# Altium footprint library CONN_HDR_2.54MM_ST.PcbLib: 159 footprints (part 5 of 13)
Each footprint in its own frame and in the unit in brackets; x right, y up, seen from the top. Pads: shape width x height; smd on the part's side, far side on the other; paste and mask are expansions set on the pad; w line width, h text height; cw(c..) or ccw(c..) is an arc to the next point about the centre after c.
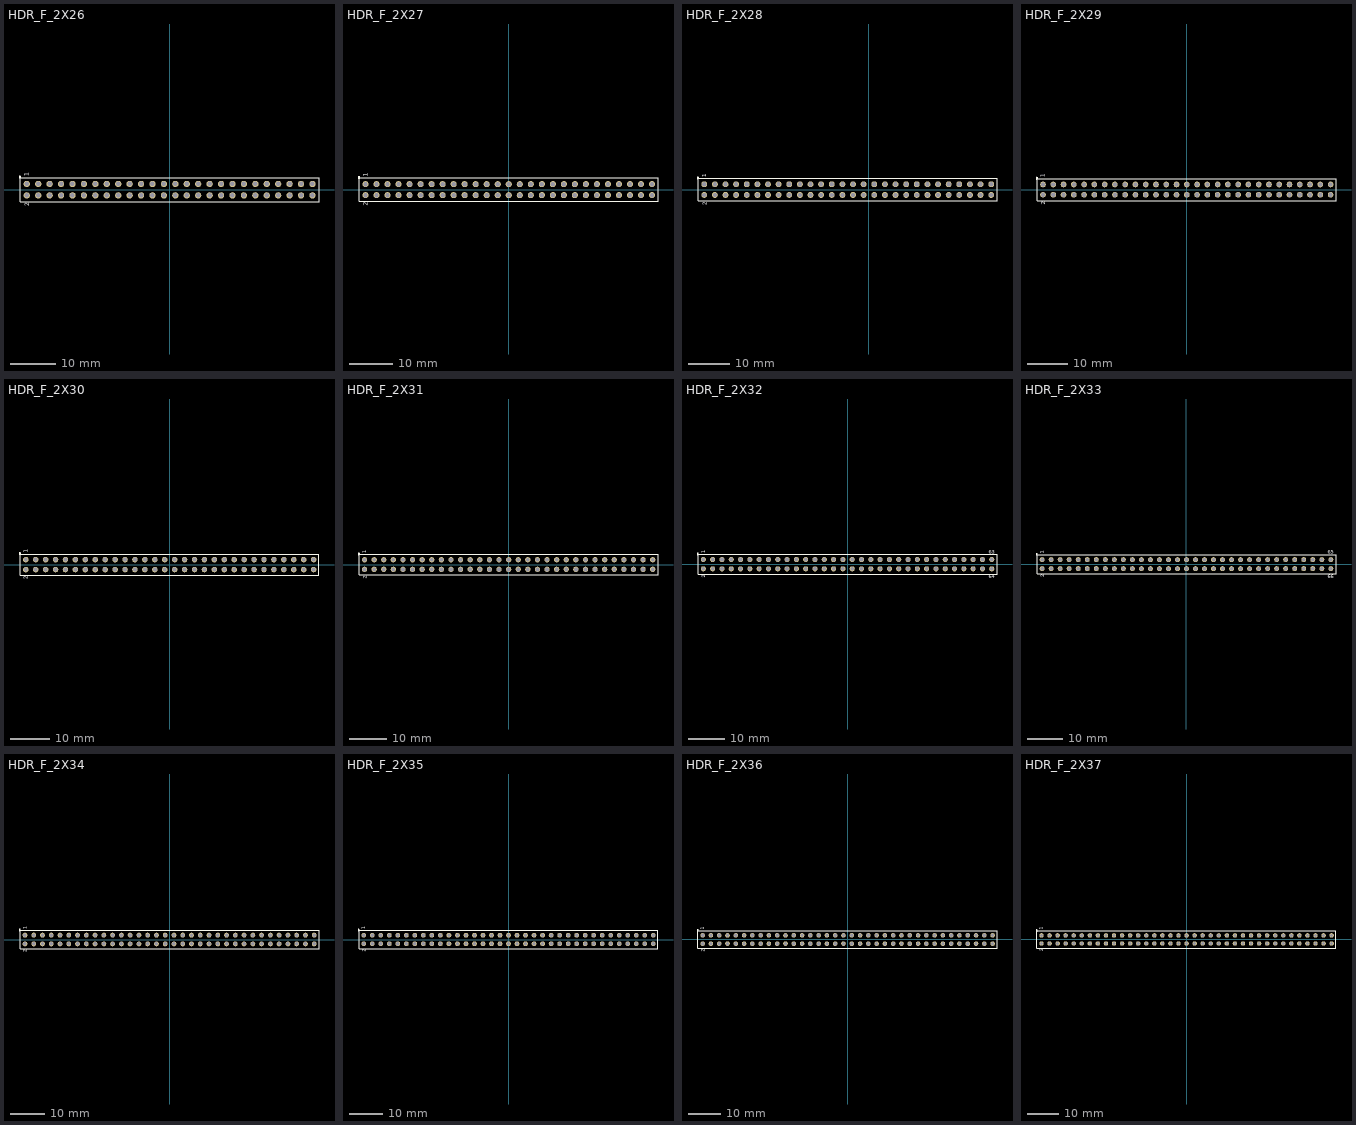
[diagram p4: the footprints below, top view; thin cyan lines are the x and y axes]

## HDR_F_2X26 [mm] "female Header with 2.54 mm Pitch"
pads (52):
  round 1.4 / inner round 1.4 / far side oval 1.4x2.2 hole 1: 1(-31.75,1.27) 2(-31.75,-1.27) 3(-29.21,1.27) 4(-29.21,-1.27) 5(-26.67,1.27) 6(-26.67,-1.27) 7(-24.13,1.27) 8(-24.13,-1.27) 9(-21.59,1.27) 10(-21.59,-1.27) 11(-19.05,1.27) 12(-19.05,-1.27) 13(-16.51,1.27) 14(-16.51,-1.27) 15(-13.97,1.27) 16(-13.97,-1.27) 17(-11.43,1.27) 18(-11.43,-1.27) 19(-8.89,1.27) 20(-8.89,-1.27) 21(-6.35,1.27) 22(-6.35,-1.27) 23(-3.81,1.27) 24(-3.81,-1.27) 25(-1.27,1.27) 26(-1.27,-1.27) 27(1.27,1.27) 28(1.27,-1.27) 29(3.81,1.27) 30(3.81,-1.27) 31(6.35,1.27) 32(6.35,-1.27) 33(8.89,1.27) 34(8.89,-1.27) 35(11.43,1.27) 36(11.43,-1.27) 37(13.97,1.27) 38(13.97,-1.27) 39(16.51,1.27) 40(16.51,-1.27) 41(19.05,1.27) 42(19.05,-1.27) 43(21.59,1.27) 44(21.59,-1.27) 45(24.13,1.27) 46(24.13,-1.27) 47(26.67,1.27) 48(26.67,-1.27) 49(29.21,1.27) 50(29.21,-1.27) 51(31.75,1.27) 52(31.75,-1.27)
TopOverlay:
  circle w0.2: c-33.28,2.8 r0.2
  lines w0.2: -33.18,-2.7 -33.18,2.7 33.2,2.7 33.2,-2.7 -33.18,-2.7
  text "1" at -31.28,3 h1
  text "2" at -31.18,-3.7 h1
3D body "PBD-2.stp": height 8.5, standoff -3.15, extent -27.94,-2.54 -25.4,2.54
3D body "PBD-2.stp": height 8.5, standoff -3.15, extent -33.02,-2.54 -30.48,2.54
3D body "PBD-2.stp": height 8.5, standoff -3.15, extent -30.48,-2.54 -27.94,2.54
3D body "PBD-2.stp": height 8.5, standoff -3.15, extent -20.32,-2.54 -17.78,2.54
3D body "PBD-2.stp": height 8.5, standoff -3.15, extent -25.4,-2.54 -22.86,2.54
3D body "PBD-2.stp": height 8.5, standoff -3.15, extent -22.86,-2.54 -20.32,2.54
3D body "PBD-2.stp": height 8.5, standoff -3.15, extent -12.7,-2.54 -10.16,2.54
3D body "PBD-2.stp": height 8.5, standoff -3.15, extent -17.78,-2.54 -15.24,2.54
3D body "PBD-2.stp": height 8.5, standoff -3.15, extent -15.24,-2.54 -12.7,2.54
3D body "PBD-2.stp": height 8.5, standoff -3.15, extent -5.08,-2.54 -2.54,2.54
3D body "PBD-2.stp": height 8.5, standoff -3.15, extent -10.16,-2.54 -7.62,2.54
3D body "PBD-2.stp": height 8.5, standoff -3.15, extent -7.62,-2.54 -5.08,2.54
3D body "PBD-2.stp": height 8.5, standoff -3.15, extent 2.54,-2.54 5.08,2.54
3D body "PBD-2.stp": height 8.5, standoff -3.15, extent -2.54,-2.54 0,2.54
3D body "PBD-2.stp": height 8.5, standoff -3.15, extent 0,-2.54 2.54,2.54
3D body "PBD-2.stp": height 8.5, standoff -3.15, extent 10.16,-2.54 12.7,2.54
3D body "PBD-2.stp": height 8.5, standoff -3.15, extent 5.08,-2.54 7.62,2.54
3D body "PBD-2.stp": height 8.5, standoff -3.15, extent 7.62,-2.54 10.16,2.54
3D body "PBD-2.stp": height 8.5, standoff -3.15, extent 12.7,-2.54 15.24,2.54
3D body "PBD-2.stp": height 8.5, standoff -3.15, extent 15.24,-2.54 17.78,2.54
3D body "PBD-2.stp": height 8.5, standoff -3.15, extent 17.78,-2.54 20.32,2.54
3D body "PBD-2.stp": height 8.5, standoff -3.15, extent 20.32,-2.54 22.86,2.54
3D body "PBD-2.stp": height 8.5, standoff -3.15, extent 22.86,-2.54 25.4,2.54
3D body "PBD-2.stp": height 8.5, standoff -3.15, extent 25.4,-2.54 27.94,2.54
3D body "PBD-2.stp": height 8.5, standoff -3.15, extent 27.94,-2.54 30.48,2.54
3D body "PBD-2.stp": height 8.5, standoff -3.15, extent 30.48,-2.54 33.02,2.54

## HDR_F_2X27 [mm] "female Header with 2.54 mm Pitch"
pads (54):
  round 1.4 / inner round 1.4 / far side oval 1.4x2.2 hole 1: 1(-33.02,1.27) 2(-33.02,-1.27) 3(-30.48,1.27) 4(-30.48,-1.27) 5(-27.94,1.27) 6(-27.94,-1.27) 7(-25.4,1.27) 8(-25.4,-1.27) 9(-22.86,1.27) 10(-22.86,-1.27) 11(-20.32,1.27) 12(-20.32,-1.27) 13(-17.78,1.27) 14(-17.78,-1.27) 15(-15.24,1.27) 16(-15.24,-1.27) 17(-12.7,1.27) 18(-12.7,-1.27) 19(-10.16,1.27) 20(-10.16,-1.27) 21(-7.62,1.27) 22(-7.62,-1.27) 23(-5.08,1.27) 24(-5.08,-1.27) 25(-2.54,1.27) 26(-2.54,-1.27) 27(0,1.27) 28(0,-1.27) 29(2.54,1.27) 30(2.54,-1.27) 31(5.08,1.27) 32(5.08,-1.27) 33(7.62,1.27) 34(7.62,-1.27) 35(10.16,1.27) 36(10.16,-1.27) 37(12.7,1.27) 38(12.7,-1.27) 39(15.24,1.27) 40(15.24,-1.27) 41(17.78,1.27) 42(17.78,-1.27) 43(20.32,1.27) 44(20.32,-1.27) 45(22.86,1.27) 46(22.86,-1.27) 47(25.4,1.27) 48(25.4,-1.27) 49(27.94,1.27) 50(27.94,-1.27) 51(30.48,1.27) 52(30.48,-1.27) 53(33.02,1.27) 54(33.02,-1.27)
TopOverlay:
  circle w0.2: c-34.55,2.8 r0.2
  lines w0.2: -34.45,-2.7 34.4,-2.7 34.4,2.7 -34.45,2.7 -34.45,-2.7
  text "2" at -32.45,-3.7 h1
  text "1" at -32.55,3 h1
3D body "PBD-2.stp": height 8.5, standoff -3.15, extent 31.75,-2.54 34.29,2.54
3D body "PBD-2.stp": height 8.5, standoff -3.15, extent 29.21,-2.54 31.75,2.54
3D body "PBD-2.stp": height 8.5, standoff -3.15, extent 26.67,-2.54 29.21,2.54
3D body "PBD-2.stp": height 8.5, standoff -3.15, extent 24.13,-2.54 26.67,2.54
3D body "PBD-2.stp": height 8.5, standoff -3.15, extent 21.59,-2.54 24.13,2.54
3D body "PBD-2.stp": height 8.5, standoff -3.15, extent 19.05,-2.54 21.59,2.54
3D body "PBD-2.stp": height 8.5, standoff -3.15, extent 16.51,-2.54 19.05,2.54
3D body "PBD-2.stp": height 8.5, standoff -3.15, extent 13.97,-2.54 16.51,2.54
3D body "PBD-2.stp": height 8.5, standoff -3.15, extent 11.43,-2.54 13.97,2.54
3D body "PBD-2.stp": height 8.5, standoff -3.15, extent 6.35,-2.54 8.89,2.54
3D body "PBD-2.stp": height 8.5, standoff -3.15, extent 3.81,-2.54 6.35,2.54
3D body "PBD-2.stp": height 8.5, standoff -3.15, extent 8.89,-2.54 11.43,2.54
3D body "PBD-2.stp": height 8.5, standoff -3.15, extent -1.27,-2.54 1.27,2.54
3D body "PBD-2.stp": height 8.5, standoff -3.15, extent -3.81,-2.54 -1.27,2.54
3D body "PBD-2.stp": height 8.5, standoff -3.15, extent 1.27,-2.54 3.81,2.54
3D body "PBD-2.stp": height 8.5, standoff -3.15, extent -8.89,-2.54 -6.35,2.54
3D body "PBD-2.stp": height 8.5, standoff -3.15, extent -11.43,-2.54 -8.89,2.54
3D body "PBD-2.stp": height 8.5, standoff -3.15, extent -6.35,-2.54 -3.81,2.54
3D body "PBD-2.stp": height 8.5, standoff -3.15, extent -16.51,-2.54 -13.97,2.54
3D body "PBD-2.stp": height 8.5, standoff -3.15, extent -19.05,-2.54 -16.51,2.54
3D body "PBD-2.stp": height 8.5, standoff -3.15, extent -13.97,-2.54 -11.43,2.54
3D body "PBD-2.stp": height 8.5, standoff -3.15, extent -24.13,-2.54 -21.59,2.54
3D body "PBD-2.stp": height 8.5, standoff -3.15, extent -26.67,-2.54 -24.13,2.54
3D body "PBD-2.stp": height 8.5, standoff -3.15, extent -21.59,-2.54 -19.05,2.54
3D body "PBD-2.stp": height 8.5, standoff -3.15, extent -31.75,-2.54 -29.21,2.54
3D body "PBD-2.stp": height 8.5, standoff -3.15, extent -34.29,-2.54 -31.75,2.54
3D body "PBD-2.stp": height 8.5, standoff -3.15, extent -29.21,-2.54 -26.67,2.54

## HDR_F_2X28 [mm] "female Header with 2.54 mm Pitch"
pads (56):
  round 1.4 / inner round 1.4 / far side oval 1.4x2.2 hole 1: 1(-39.37,1.27) 2(-39.37,-1.27) 3(-36.83,1.27) 4(-36.83,-1.27) 5(-34.29,1.27) 6(-34.29,-1.27) 7(-31.75,1.27) 8(-31.75,-1.27) 9(-29.21,1.27) 10(-29.21,-1.27) 11(-26.67,1.27) 12(-26.67,-1.27) 13(-24.13,1.27) 14(-24.13,-1.27) 15(-21.59,1.27) 16(-21.59,-1.27) 17(-19.05,1.27) 18(-19.05,-1.27) 19(-16.51,1.27) 20(-16.51,-1.27) 21(-13.97,1.27) 22(-13.97,-1.27) 23(-11.43,1.27) 24(-11.43,-1.27) 25(-8.89,1.27) 26(-8.89,-1.27) 27(-6.35,1.27) 28(-6.35,-1.27) 29(-3.81,1.27) 30(-3.81,-1.27) 31(-1.27,1.27) 32(-1.27,-1.27) 33(1.27,1.27) 34(1.27,-1.27) 35(3.81,1.27) 36(3.81,-1.27) 37(6.35,1.27) 38(6.35,-1.27) 39(8.89,1.27) 40(8.89,-1.27) 41(11.43,1.27) 42(11.43,-1.27) 43(13.97,1.27) 44(13.97,-1.27) 45(16.51,1.27) 46(16.51,-1.27) 47(19.05,1.27) 48(19.05,-1.27) 49(21.59,1.27) 50(21.59,-1.27) 51(24.13,1.27) 52(24.13,-1.27) 53(26.67,1.27) 54(26.67,-1.27) 55(29.21,1.27) 56(29.21,-1.27)
TopOverlay:
  circle w0.2: c-40.9,2.8 r0.2
  lines w0.2: -40.8,-2.7 -40.8,2.7 30.6,2.7 30.6,-2.7 -40.8,-2.7
  text "1" at -38.9,3 h1
  text "2" at -38.8,-3.7 h1
3D body "PBD-2.stp": height 8.5, standoff -3.15, extent -35.56,-2.54 -33.02,2.54
3D body "PBD-2.stp": height 8.5, standoff -3.15, extent -40.64,-2.54 -38.1,2.54
3D body "PBD-2.stp": height 8.5, standoff -3.15, extent -38.1,-2.54 -35.56,2.54
3D body "PBD-2.stp": height 8.5, standoff -3.15, extent -27.94,-2.54 -25.4,2.54
3D body "PBD-2.stp": height 8.5, standoff -3.15, extent -33.02,-2.54 -30.48,2.54
3D body "PBD-2.stp": height 8.5, standoff -3.15, extent -30.48,-2.54 -27.94,2.54
3D body "PBD-2.stp": height 8.5, standoff -3.15, extent -20.32,-2.54 -17.78,2.54
3D body "PBD-2.stp": height 8.5, standoff -3.15, extent -25.4,-2.54 -22.86,2.54
3D body "PBD-2.stp": height 8.5, standoff -3.15, extent -22.86,-2.54 -20.32,2.54
3D body "PBD-2.stp": height 8.5, standoff -3.15, extent -12.7,-2.54 -10.16,2.54
3D body "PBD-2.stp": height 8.5, standoff -3.15, extent -17.78,-2.54 -15.24,2.54
3D body "PBD-2.stp": height 8.5, standoff -3.15, extent -15.24,-2.54 -12.7,2.54
3D body "PBD-2.stp": height 8.5, standoff -3.15, extent -5.08,-2.54 -2.54,2.54
3D body "PBD-2.stp": height 8.5, standoff -3.15, extent -10.16,-2.54 -7.62,2.54
3D body "PBD-2.stp": height 8.5, standoff -3.15, extent -7.62,-2.54 -5.08,2.54
3D body "PBD-2.stp": height 8.5, standoff -3.15, extent 2.54,-2.54 5.08,2.54
3D body "PBD-2.stp": height 8.5, standoff -3.15, extent -2.54,-2.54 0,2.54
3D body "PBD-2.stp": height 8.5, standoff -3.15, extent 0,-2.54 2.54,2.54
3D body "PBD-2.stp": height 8.5, standoff -3.15, extent 5.08,-2.54 7.62,2.54
3D body "PBD-2.stp": height 8.5, standoff -3.15, extent 7.62,-2.54 10.16,2.54
3D body "PBD-2.stp": height 8.5, standoff -3.15, extent 10.16,-2.54 12.7,2.54
3D body "PBD-2.stp": height 8.5, standoff -3.15, extent 12.7,-2.54 15.24,2.54
3D body "PBD-2.stp": height 8.5, standoff -3.15, extent 15.24,-2.54 17.78,2.54
3D body "PBD-2.stp": height 8.5, standoff -3.15, extent 17.78,-2.54 20.32,2.54
3D body "PBD-2.stp": height 8.5, standoff -3.15, extent 20.32,-2.54 22.86,2.54
3D body "PBD-2.stp": height 8.5, standoff -3.15, extent 27.94,-2.54 30.48,2.54
3D body "PBD-2.stp": height 8.5, standoff -3.15, extent 22.86,-2.54 25.4,2.54
3D body "PBD-2.stp": height 8.5, standoff -3.15, extent 25.4,-2.54 27.94,2.54

## HDR_F_2X29 [mm] "female Header with 2.54 mm Pitch"
pads (58):
  round 1.4 / inner round 1.4 / far side oval 1.4x2.2 hole 1: 1(-35.56,1.27) 2(-35.56,-1.27) 3(-33.02,1.27) 4(-33.02,-1.27) 5(-30.48,1.27) 6(-30.48,-1.27) 7(-27.94,1.27) 8(-27.94,-1.27) 9(-25.4,1.27) 10(-25.4,-1.27) 11(-22.86,1.27) 12(-22.86,-1.27) 13(-20.32,1.27) 14(-20.32,-1.27) 15(-17.78,1.27) 16(-17.78,-1.27) 17(-15.24,1.27) 18(-15.24,-1.27) 19(-12.7,1.27) 20(-12.7,-1.27) 21(-10.16,1.27) 22(-10.16,-1.27) 23(-7.62,1.27) 24(-7.62,-1.27) 25(-5.08,1.27) 26(-5.08,-1.27) 27(-2.54,1.27) 28(-2.54,-1.27) 29(0,1.27) 30(0,-1.27) 31(2.54,1.27) 32(2.54,-1.27) 33(5.08,1.27) 34(5.08,-1.27) 35(7.62,1.27) 36(7.62,-1.27) 37(10.16,1.27) 38(10.16,-1.27) 39(12.7,1.27) 40(12.7,-1.27) 41(15.24,1.27) 42(15.24,-1.27) 43(17.78,1.27) 44(17.78,-1.27) 45(20.32,1.27) 46(20.32,-1.27) 47(22.86,1.27) 48(22.86,-1.27) 49(25.4,1.27) 50(25.4,-1.27) 51(27.94,1.27) 52(27.94,-1.27) 53(30.48,1.27) 54(30.48,-1.27) 55(33.02,1.27) 56(33.02,-1.27) 57(35.56,1.27) 58(35.56,-1.27)
TopOverlay:
  circle w0.2: c-37.09,2.8 r0.2
  lines w0.2: -36.99,-2.7 -36.99,2.7 36.9,2.7 36.9,-2.7 -36.99,-2.7
  text "1" at -35.09,3 h1
  text "2" at -34.99,-3.7 h1
3D body "PBD-2.stp": height 8.5, standoff -3.15, extent -31.75,-2.54 -29.21,2.54
3D body "PBD-2.stp": height 8.5, standoff -3.15, extent -36.83,-2.54 -34.29,2.54
3D body "PBD-2.stp": height 8.5, standoff -3.15, extent -34.29,-2.54 -31.75,2.54
3D body "PBD-2.stp": height 8.5, standoff -3.15, extent -24.13,-2.54 -21.59,2.54
3D body "PBD-2.stp": height 8.5, standoff -3.15, extent -29.21,-2.54 -26.67,2.54
3D body "PBD-2.stp": height 8.5, standoff -3.15, extent -26.67,-2.54 -24.13,2.54
3D body "PBD-2.stp": height 8.5, standoff -3.15, extent -16.51,-2.54 -13.97,2.54
3D body "PBD-2.stp": height 8.5, standoff -3.15, extent -21.59,-2.54 -19.05,2.54
3D body "PBD-2.stp": height 8.5, standoff -3.15, extent -19.05,-2.54 -16.51,2.54
3D body "PBD-2.stp": height 8.5, standoff -3.15, extent -8.89,-2.54 -6.35,2.54
3D body "PBD-2.stp": height 8.5, standoff -3.15, extent -13.97,-2.54 -11.43,2.54
3D body "PBD-2.stp": height 8.5, standoff -3.15, extent -11.43,-2.54 -8.89,2.54
3D body "PBD-2.stp": height 8.5, standoff -3.15, extent -1.27,-2.54 1.27,2.54
3D body "PBD-2.stp": height 8.5, standoff -3.15, extent -6.35,-2.54 -3.81,2.54
3D body "PBD-2.stp": height 8.5, standoff -3.15, extent -3.81,-2.54 -1.27,2.54
3D body "PBD-2.stp": height 8.5, standoff -3.15, extent 6.35,-2.54 8.89,2.54
3D body "PBD-2.stp": height 8.5, standoff -3.15, extent 1.27,-2.54 3.81,2.54
3D body "PBD-2.stp": height 8.5, standoff -3.15, extent 3.81,-2.54 6.35,2.54
3D body "PBD-2.stp": height 8.5, standoff -3.15, extent 8.89,-2.54 11.43,2.54
3D body "PBD-2.stp": height 8.5, standoff -3.15, extent 11.43,-2.54 13.97,2.54
3D body "PBD-2.stp": height 8.5, standoff -3.15, extent 13.97,-2.54 16.51,2.54
3D body "PBD-2.stp": height 8.5, standoff -3.15, extent 16.51,-2.54 19.05,2.54
3D body "PBD-2.stp": height 8.5, standoff -3.15, extent 19.05,-2.54 21.59,2.54
3D body "PBD-2.stp": height 8.5, standoff -3.15, extent 21.59,-2.54 24.13,2.54
3D body "PBD-2.stp": height 8.5, standoff -3.15, extent 24.13,-2.54 26.67,2.54
3D body "PBD-2.stp": height 8.5, standoff -3.15, extent 31.75,-2.54 34.29,2.54
3D body "PBD-2.stp": height 8.5, standoff -3.15, extent 26.67,-2.54 29.21,2.54
3D body "PBD-2.stp": height 8.5, standoff -3.15, extent 29.21,-2.54 31.75,2.54
3D body "PBD-2.stp": height 8.5, standoff -3.15, extent 34.29,-2.54 36.83,2.54

## HDR_F_2X30 [mm] "female Header with 2.54 mm Pitch"
pads (60):
  round 1.4 / inner round 1.4 / far side oval 1.4x2.2 hole 1: 1(-36.83,1.27) 2(-36.83,-1.27) 3(-34.29,1.27) 4(-34.29,-1.27) 5(-31.75,1.27) 6(-31.75,-1.27) 7(-29.21,1.27) 8(-29.21,-1.27) 9(-26.67,1.27) 10(-26.67,-1.27) 11(-24.13,1.27) 12(-24.13,-1.27) 13(-21.59,1.27) 14(-21.59,-1.27) 15(-19.05,1.27) 16(-19.05,-1.27) 17(-16.51,1.27) 18(-16.51,-1.27) 19(-13.97,1.27) 20(-13.97,-1.27) 21(-11.43,1.27) 22(-11.43,-1.27) 23(-8.89,1.27) 24(-8.89,-1.27) 25(-6.35,1.27) 26(-6.35,-1.27) 27(-3.81,1.27) 28(-3.81,-1.27) 29(-1.27,1.27) 30(-1.27,-1.27) 31(1.27,1.27) 32(1.27,-1.27) 33(3.81,1.27) 34(3.81,-1.27) 35(6.35,1.27) 36(6.35,-1.27) 37(8.89,1.27) 38(8.89,-1.27) 39(11.43,1.27) 40(11.43,-1.27) 41(13.97,1.27) 42(13.97,-1.27) 43(16.51,1.27) 44(16.51,-1.27) 45(19.05,1.27) 46(19.05,-1.27) 47(21.59,1.27) 48(21.59,-1.27) 49(24.13,1.27) 50(24.13,-1.27) 51(26.67,1.27) 52(26.67,-1.27) 53(29.21,1.27) 54(29.21,-1.27) 55(31.75,1.27) 56(31.75,-1.27) 57(34.29,1.27) 58(34.29,-1.27) 59(36.83,1.27) 60(36.83,-1.27)
TopOverlay:
  circle w0.2: c-38.36,2.8 r0.2
  lines w0.2: -38.26,-2.7 -38.26,2.7 38.2,2.7 38.2,-2.7 -38.26,-2.7
  text "1" at -36.36,3 h1
  text "2" at -36.26,-3.7 h1
3D body "PBD-2.stp": height 8.5, standoff -3.15, extent -33.02,-2.54 -30.48,2.54
3D body "PBD-2.stp": height 8.5, standoff -3.15, extent -38.1,-2.54 -35.56,2.54
3D body "PBD-2.stp": height 8.5, standoff -3.15, extent -35.56,-2.54 -33.02,2.54
3D body "PBD-2.stp": height 8.5, standoff -3.15, extent -25.4,-2.54 -22.86,2.54
3D body "PBD-2.stp": height 8.5, standoff -3.15, extent -30.48,-2.54 -27.94,2.54
3D body "PBD-2.stp": height 8.5, standoff -3.15, extent -27.94,-2.54 -25.4,2.54
3D body "PBD-2.stp": height 8.5, standoff -3.15, extent -17.78,-2.54 -15.24,2.54
3D body "PBD-2.stp": height 8.5, standoff -3.15, extent -22.86,-2.54 -20.32,2.54
3D body "PBD-2.stp": height 8.5, standoff -3.15, extent -20.32,-2.54 -17.78,2.54
3D body "PBD-2.stp": height 8.5, standoff -3.15, extent -10.16,-2.54 -7.62,2.54
3D body "PBD-2.stp": height 8.5, standoff -3.15, extent -15.24,-2.54 -12.7,2.54
3D body "PBD-2.stp": height 8.5, standoff -3.15, extent -12.7,-2.54 -10.16,2.54
3D body "PBD-2.stp": height 8.5, standoff -3.15, extent -2.54,-2.54 0,2.54
3D body "PBD-2.stp": height 8.5, standoff -3.15, extent -7.62,-2.54 -5.08,2.54
3D body "PBD-2.stp": height 8.5, standoff -3.15, extent -5.08,-2.54 -2.54,2.54
3D body "PBD-2.stp": height 8.5, standoff -3.15, extent 5.08,-2.54 7.62,2.54
3D body "PBD-2.stp": height 8.5, standoff -3.15, extent 0,-2.54 2.54,2.54
3D body "PBD-2.stp": height 8.5, standoff -3.15, extent 2.54,-2.54 5.08,2.54
3D body "PBD-2.stp": height 8.5, standoff -3.15, extent 7.62,-2.54 10.16,2.54
3D body "PBD-2.stp": height 8.5, standoff -3.15, extent 10.16,-2.54 12.7,2.54
3D body "PBD-2.stp": height 8.5, standoff -3.15, extent 12.7,-2.54 15.24,2.54
3D body "PBD-2.stp": height 8.5, standoff -3.15, extent 15.24,-2.54 17.78,2.54
3D body "PBD-2.stp": height 8.5, standoff -3.15, extent 17.78,-2.54 20.32,2.54
3D body "PBD-2.stp": height 8.5, standoff -3.15, extent 20.32,-2.54 22.86,2.54
3D body "PBD-2.stp": height 8.5, standoff -3.15, extent 22.86,-2.54 25.4,2.54
3D body "PBD-2.stp": height 8.5, standoff -3.15, extent 30.48,-2.54 33.02,2.54
3D body "PBD-2.stp": height 8.5, standoff -3.15, extent 25.4,-2.54 27.94,2.54
3D body "PBD-2.stp": height 8.5, standoff -3.15, extent 27.94,-2.54 30.48,2.54
3D body "PBD-2.stp": height 8.5, standoff -3.15, extent 33.02,-2.54 35.56,2.54
3D body "PBD-2.stp": height 8.5, standoff -3.15, extent 35.56,-2.54 38.1,2.54

## HDR_F_2X31 [mm] "female Header with 2.54 mm Pitch"
pads (62):
  round 1.4 / inner round 1.4 / far side oval 1.4x2.2 hole 1: 1(-38.1,1.27) 2(-38.1,-1.27) 3(-35.56,1.27) 4(-35.56,-1.27) 5(-33.02,1.27) 6(-33.02,-1.27) 7(-30.48,1.27) 8(-30.48,-1.27) 9(-27.94,1.27) 10(-27.94,-1.27) 11(-25.4,1.27) 12(-25.4,-1.27) 13(-22.86,1.27) 14(-22.86,-1.27) 15(-20.32,1.27) 16(-20.32,-1.27) 17(-17.78,1.27) 18(-17.78,-1.27) 19(-15.24,1.27) 20(-15.24,-1.27) 21(-12.7,1.27) 22(-12.7,-1.27) 23(-10.16,1.27) 24(-10.16,-1.27) 25(-7.62,1.27) 26(-7.62,-1.27) 27(-5.08,1.27) 28(-5.08,-1.27) 29(-2.54,1.27) 30(-2.54,-1.27) 31(0,1.27) 32(0,-1.27) 33(2.54,1.27) 34(2.54,-1.27) 35(5.08,1.27) 36(5.08,-1.27) 37(7.62,1.27) 38(7.62,-1.27) 39(10.16,1.27) 40(10.16,-1.27) 41(12.7,1.27) 42(12.7,-1.27) 43(15.24,1.27) 44(15.24,-1.27) 45(17.78,1.27) 46(17.78,-1.27) 47(20.32,1.27) 48(20.32,-1.27) 49(22.86,1.27) 50(22.86,-1.27) 51(25.4,1.27) 52(25.4,-1.27) 53(27.94,1.27) 54(27.94,-1.27) 55(30.48,1.27) 56(30.48,-1.27) 57(33.02,1.27) 58(33.02,-1.27) 59(35.56,1.27) 60(35.56,-1.27) 61(38.1,1.27) 62(38.1,-1.27)
TopOverlay:
  circle w0.2: c-39.63,2.8 r0.2
  lines w0.2: -39.53,-2.7 39.5,-2.7 39.5,2.7 -39.53,2.7 -39.53,-2.7
  text "2" at -37.53,-3.7 h1
  text "1" at -37.63,3 h1
3D body "PBD-2.stp": height 8.5, standoff -3.15, extent 34.29,-2.54 36.83,2.54
3D body "PBD-2.stp": height 8.5, standoff -3.15, extent 31.75,-2.54 34.29,2.54
3D body "PBD-2.stp": height 8.5, standoff -3.15, extent 36.83,-2.54 39.37,2.54
3D body "PBD-2.stp": height 8.5, standoff -3.15, extent 26.67,-2.54 29.21,2.54
3D body "PBD-2.stp": height 8.5, standoff -3.15, extent 24.13,-2.54 26.67,2.54
3D body "PBD-2.stp": height 8.5, standoff -3.15, extent 29.21,-2.54 31.75,2.54
3D body "PBD-2.stp": height 8.5, standoff -3.15, extent 21.59,-2.54 24.13,2.54
3D body "PBD-2.stp": height 8.5, standoff -3.15, extent 19.05,-2.54 21.59,2.54
3D body "PBD-2.stp": height 8.5, standoff -3.15, extent 16.51,-2.54 19.05,2.54
3D body "PBD-2.stp": height 8.5, standoff -3.15, extent 13.97,-2.54 16.51,2.54
3D body "PBD-2.stp": height 8.5, standoff -3.15, extent 11.43,-2.54 13.97,2.54
3D body "PBD-2.stp": height 8.5, standoff -3.15, extent 8.89,-2.54 11.43,2.54
3D body "PBD-2.stp": height 8.5, standoff -3.15, extent 6.35,-2.54 8.89,2.54
3D body "PBD-2.stp": height 8.5, standoff -3.15, extent 1.27,-2.54 3.81,2.54
3D body "PBD-2.stp": height 8.5, standoff -3.15, extent -1.27,-2.54 1.27,2.54
3D body "PBD-2.stp": height 8.5, standoff -3.15, extent 3.81,-2.54 6.35,2.54
3D body "PBD-2.stp": height 8.5, standoff -3.15, extent -6.35,-2.54 -3.81,2.54
3D body "PBD-2.stp": height 8.5, standoff -3.15, extent -8.89,-2.54 -6.35,2.54
3D body "PBD-2.stp": height 8.5, standoff -3.15, extent -3.81,-2.54 -1.27,2.54
3D body "PBD-2.stp": height 8.5, standoff -3.15, extent -13.97,-2.54 -11.43,2.54
3D body "PBD-2.stp": height 8.5, standoff -3.15, extent -16.51,-2.54 -13.97,2.54
3D body "PBD-2.stp": height 8.5, standoff -3.15, extent -11.43,-2.54 -8.89,2.54
3D body "PBD-2.stp": height 8.5, standoff -3.15, extent -21.59,-2.54 -19.05,2.54
3D body "PBD-2.stp": height 8.5, standoff -3.15, extent -24.13,-2.54 -21.59,2.54
3D body "PBD-2.stp": height 8.5, standoff -3.15, extent -19.05,-2.54 -16.51,2.54
3D body "PBD-2.stp": height 8.5, standoff -3.15, extent -29.21,-2.54 -26.67,2.54
3D body "PBD-2.stp": height 8.5, standoff -3.15, extent -31.75,-2.54 -29.21,2.54
3D body "PBD-2.stp": height 8.5, standoff -3.15, extent -26.67,-2.54 -24.13,2.54
3D body "PBD-2.stp": height 8.5, standoff -3.15, extent -36.83,-2.54 -34.29,2.54
3D body "PBD-2.stp": height 8.5, standoff -3.15, extent -39.37,-2.54 -36.83,2.54
3D body "PBD-2.stp": height 8.5, standoff -3.15, extent -34.29,-2.54 -31.75,2.54

## HDR_F_2X32 [mm] "female Header 2X32 with 2.54 mm Pitch"
pads (64):
  round 1.4 / inner round 1.4 / far side oval 1.4x2.2 hole 1: 1(-39.37,1.27) 2(-39.37,-1.27) 3(-36.83,1.27) 4(-36.83,-1.27) 5(-34.29,1.27) 6(-34.29,-1.27) 7(-31.75,1.27) 8(-31.75,-1.27) 9(-29.21,1.27) 10(-29.21,-1.27) 11(-26.67,1.27) 12(-26.67,-1.27) 13(-24.13,1.27) 14(-24.13,-1.27) 15(-21.59,1.27) 16(-21.59,-1.27) 17(-19.05,1.27) 18(-19.05,-1.27) 19(-16.51,1.27) 20(-16.51,-1.27) 21(-13.97,1.27) 22(-13.97,-1.27) 23(-11.43,1.27) 24(-11.43,-1.27) 25(-8.89,1.27) 26(-8.89,-1.27) 27(-6.35,1.27) 28(-6.35,-1.27) 29(-3.81,1.27) 30(-3.81,-1.27) 31(-1.27,1.27) 32(-1.27,-1.27) 33(1.27,1.27) 34(1.27,-1.27) 35(3.81,1.27) 36(3.81,-1.27) 37(6.35,1.27) 38(6.35,-1.27) 39(8.89,1.27) 40(8.89,-1.27) 41(11.43,1.27) 42(11.43,-1.27) 43(13.97,1.27) 44(13.97,-1.27) 45(16.51,1.27) 46(16.51,-1.27) 47(19.05,1.27) 48(19.05,-1.27) 49(21.59,1.27) 50(21.59,-1.27) 51(24.13,1.27) 52(24.13,-1.27) 53(26.67,1.27) 54(26.67,-1.27) 55(29.21,1.27) 56(29.21,-1.27) 57(31.75,1.27) 58(31.75,-1.27) 59(34.29,1.27) 60(34.29,-1.27) 61(36.83,1.27) 62(36.83,-1.27) 63(39.37,1.27) 64(39.37,-1.27)
TopOverlay:
  circle w0.2: c-40.9,2.8 r0.2
  lines w0.2: -40.8,-2.7 -40.8,2.7 40.8,2.7 40.8,-2.7 -40.8,-2.7
  text "63" at 38.6,2.9 h1
  text "64" at 38.6,-3.9 h1
  text "1" at -38.9,3 h1
  text "2" at -38.8,-3.7 h1
3D body "PBD-2.stp": height 8.5, standoff -3.15, extent -35.56,-2.54 -33.02,2.54
3D body "PBD-2.stp": height 8.5, standoff -3.15, extent -40.64,-2.54 -38.1,2.54
3D body "PBD-2.stp": height 8.5, standoff -3.15, extent -38.1,-2.54 -35.56,2.54
3D body "PBD-2.stp": height 8.5, standoff -3.15, extent -27.94,-2.54 -25.4,2.54
3D body "PBD-2.stp": height 8.5, standoff -3.15, extent -33.02,-2.54 -30.48,2.54
3D body "PBD-2.stp": height 8.5, standoff -3.15, extent -30.48,-2.54 -27.94,2.54
3D body "PBD-2.stp": height 8.5, standoff -3.15, extent -20.32,-2.54 -17.78,2.54
3D body "PBD-2.stp": height 8.5, standoff -3.15, extent -25.4,-2.54 -22.86,2.54
3D body "PBD-2.stp": height 8.5, standoff -3.15, extent -22.86,-2.54 -20.32,2.54
3D body "PBD-2.stp": height 8.5, standoff -3.15, extent -12.7,-2.54 -10.16,2.54
3D body "PBD-2.stp": height 8.5, standoff -3.15, extent -17.78,-2.54 -15.24,2.54
3D body "PBD-2.stp": height 8.5, standoff -3.15, extent -15.24,-2.54 -12.7,2.54
3D body "PBD-2.stp": height 8.5, standoff -3.15, extent -5.08,-2.54 -2.54,2.54
3D body "PBD-2.stp": height 8.5, standoff -3.15, extent -10.16,-2.54 -7.62,2.54
3D body "PBD-2.stp": height 8.5, standoff -3.15, extent -7.62,-2.54 -5.08,2.54
3D body "PBD-2.stp": height 8.5, standoff -3.15, extent 2.54,-2.54 5.08,2.54
3D body "PBD-2.stp": height 8.5, standoff -3.15, extent -2.54,-2.54 0,2.54
3D body "PBD-2.stp": height 8.5, standoff -3.15, extent 0,-2.54 2.54,2.54
3D body "PBD-2.stp": height 8.5, standoff -3.15, extent 5.08,-2.54 7.62,2.54
3D body "PBD-2.stp": height 8.5, standoff -3.15, extent 7.62,-2.54 10.16,2.54
3D body "PBD-2.stp": height 8.5, standoff -3.15, extent 10.16,-2.54 12.7,2.54
3D body "PBD-2.stp": height 8.5, standoff -3.15, extent 12.7,-2.54 15.24,2.54
3D body "PBD-2.stp": height 8.5, standoff -3.15, extent 15.24,-2.54 17.78,2.54
3D body "PBD-2.stp": height 8.5, standoff -3.15, extent 17.78,-2.54 20.32,2.54
3D body "PBD-2.stp": height 8.5, standoff -3.15, extent 20.32,-2.54 22.86,2.54
3D body "PBD-2.stp": height 8.5, standoff -3.15, extent 27.94,-2.54 30.48,2.54
3D body "PBD-2.stp": height 8.5, standoff -3.15, extent 22.86,-2.54 25.4,2.54
3D body "PBD-2.stp": height 8.5, standoff -3.15, extent 25.4,-2.54 27.94,2.54
3D body "PBD-2.stp": height 8.5, standoff -3.15, extent 35.56,-2.54 38.1,2.54
3D body "PBD-2.stp": height 8.5, standoff -3.15, extent 30.48,-2.54 33.02,2.54
3D body "PBD-2.stp": height 8.5, standoff -3.15, extent 33.02,-2.54 35.56,2.54
3D body "PBD-2.stp": height 8.5, standoff -3.15, extent 38.1,-2.54 40.64,2.54

## HDR_F_2X33 [mm] "female Header 2X32 with 2.54 mm Pitch"
pads (66):
  round 1.4 / inner round 1.4 / far side oval 1.4x2.2 hole 1: 1(-40.64,1.27) 2(-40.64,-1.27) 3(-38.1,1.27) 4(-38.1,-1.27) 5(-35.56,1.27) 6(-35.56,-1.27) 7(-33.02,1.27) 8(-33.02,-1.27) 9(-30.48,1.27) 10(-30.48,-1.27) 11(-27.94,1.27) 12(-27.94,-1.27) 13(-25.4,1.27) 14(-25.4,-1.27) 15(-22.86,1.27) 16(-22.86,-1.27) 17(-20.32,1.27) 18(-20.32,-1.27) 19(-17.78,1.27) 20(-17.78,-1.27) 21(-15.24,1.27) 22(-15.24,-1.27) 23(-12.7,1.27) 24(-12.7,-1.27) 25(-10.16,1.27) 26(-10.16,-1.27) 27(-7.62,1.27) 28(-7.62,-1.27) 29(-5.08,1.27) 30(-5.08,-1.27) 31(-2.54,1.27) 32(-2.54,-1.27) 33(0,1.27) 34(0,-1.27) 35(2.54,1.27) 36(2.54,-1.27) 37(5.08,1.27) 38(5.08,-1.27) 39(7.62,1.27) 40(7.62,-1.27) 41(10.16,1.27) 42(10.16,-1.27) 43(12.7,1.27) 44(12.7,-1.27) 45(15.24,1.27) 46(15.24,-1.27) 47(17.78,1.27) 48(17.78,-1.27) 49(20.32,1.27) 50(20.32,-1.27) 51(22.86,1.27) 52(22.86,-1.27) 53(25.4,1.27) 54(25.4,-1.27) 55(27.94,1.27) 56(27.94,-1.27) 57(30.48,1.27) 58(30.48,-1.27) 59(33.02,1.27) 60(33.02,-1.27) 61(35.56,1.27) 62(35.56,-1.27) 63(38.1,1.27) 64(38.1,-1.27) 65(40.64,1.27) 66(40.64,-1.27)
TopOverlay:
  circle w0.2: c-42.17,2.8 r0.2
  lines w0.2: -42.07,-2.7 -42.07,2.7 42.1,2.7 42.1,-2.7 -42.07,-2.7
  text "65" at 39.83,2.9 h1
  text "66" at 39.83,-3.9 h1
  text "1" at -40.17,3 h1
  text "2" at -40.07,-3.7 h1
3D body "PBD-2.stp": height 8.5, standoff -3.15, extent 39.37,-2.54 41.91,2.54
3D body "PBD-2.stp": height 8.5, standoff -3.15, extent -36.83,-2.54 -34.29,2.54
3D body "PBD-2.stp": height 8.5, standoff -3.15, extent -41.91,-2.54 -39.37,2.54
3D body "PBD-2.stp": height 8.5, standoff -3.15, extent -39.37,-2.54 -36.83,2.54
3D body "PBD-2.stp": height 8.5, standoff -3.15, extent -29.21,-2.54 -26.67,2.54
3D body "PBD-2.stp": height 8.5, standoff -3.15, extent -34.29,-2.54 -31.75,2.54
3D body "PBD-2.stp": height 8.5, standoff -3.15, extent -31.75,-2.54 -29.21,2.54
3D body "PBD-2.stp": height 8.5, standoff -3.15, extent -21.59,-2.54 -19.05,2.54
3D body "PBD-2.stp": height 8.5, standoff -3.15, extent -26.67,-2.54 -24.13,2.54
3D body "PBD-2.stp": height 8.5, standoff -3.15, extent -24.13,-2.54 -21.59,2.54
3D body "PBD-2.stp": height 8.5, standoff -3.15, extent -13.97,-2.54 -11.43,2.54
3D body "PBD-2.stp": height 8.5, standoff -3.15, extent -19.05,-2.54 -16.51,2.54
3D body "PBD-2.stp": height 8.5, standoff -3.15, extent -16.51,-2.54 -13.97,2.54
3D body "PBD-2.stp": height 8.5, standoff -3.15, extent -6.35,-2.54 -3.81,2.54
3D body "PBD-2.stp": height 8.5, standoff -3.15, extent -11.43,-2.54 -8.89,2.54
3D body "PBD-2.stp": height 8.5, standoff -3.15, extent -8.89,-2.54 -6.35,2.54
3D body "PBD-2.stp": height 8.5, standoff -3.15, extent 1.27,-2.54 3.81,2.54
3D body "PBD-2.stp": height 8.5, standoff -3.15, extent -3.81,-2.54 -1.27,2.54
3D body "PBD-2.stp": height 8.5, standoff -3.15, extent -1.27,-2.54 1.27,2.54
3D body "PBD-2.stp": height 8.5, standoff -3.15, extent 3.81,-2.54 6.35,2.54
3D body "PBD-2.stp": height 8.5, standoff -3.15, extent 6.35,-2.54 8.89,2.54
3D body "PBD-2.stp": height 8.5, standoff -3.15, extent 8.89,-2.54 11.43,2.54
3D body "PBD-2.stp": height 8.5, standoff -3.15, extent 11.43,-2.54 13.97,2.54
3D body "PBD-2.stp": height 8.5, standoff -3.15, extent 13.97,-2.54 16.51,2.54
3D body "PBD-2.stp": height 8.5, standoff -3.15, extent 16.51,-2.54 19.05,2.54
3D body "PBD-2.stp": height 8.5, standoff -3.15, extent 19.05,-2.54 21.59,2.54
3D body "PBD-2.stp": height 8.5, standoff -3.15, extent 26.67,-2.54 29.21,2.54
3D body "PBD-2.stp": height 8.5, standoff -3.15, extent 21.59,-2.54 24.13,2.54
3D body "PBD-2.stp": height 8.5, standoff -3.15, extent 24.13,-2.54 26.67,2.54
3D body "PBD-2.stp": height 8.5, standoff -3.15, extent 34.29,-2.54 36.83,2.54
3D body "PBD-2.stp": height 8.5, standoff -3.15, extent 29.21,-2.54 31.75,2.54
3D body "PBD-2.stp": height 8.5, standoff -3.15, extent 31.75,-2.54 34.29,2.54
3D body "PBD-2.stp": height 8.5, standoff -3.15, extent 36.83,-2.54 39.37,2.54

## HDR_F_2X34 [mm] "female Header with 2.54 mm Pitch"
pads (68):
  round 1.4 / inner round 1.4 / far side oval 1.4x2.2 hole 1: 1(-41.91,1.27) 2(-41.91,-1.27) 3(-39.37,1.27) 4(-39.37,-1.27) 5(-36.83,1.27) 6(-36.83,-1.27) 7(-34.29,1.27) 8(-34.29,-1.27) 9(-31.75,1.27) 10(-31.75,-1.27) 11(-29.21,1.27) 12(-29.21,-1.27) 13(-26.67,1.27) 14(-26.67,-1.27) 15(-24.13,1.27) 16(-24.13,-1.27) 17(-21.59,1.27) 18(-21.59,-1.27) 19(-19.05,1.27) 20(-19.05,-1.27) 21(-16.51,1.27) 22(-16.51,-1.27) 23(-13.97,1.27) 24(-13.97,-1.27) 25(-11.43,1.27) 26(-11.43,-1.27) 27(-8.89,1.27) 28(-8.89,-1.27) 29(-6.35,1.27) 30(-6.35,-1.27) 31(-3.81,1.27) 32(-3.81,-1.27) 33(-1.27,1.27) 34(-1.27,-1.27) 35(1.27,1.27) 36(1.27,-1.27) 37(3.81,1.27) 38(3.81,-1.27) 39(6.35,1.27) 40(6.35,-1.27) 41(8.89,1.27) 42(8.89,-1.27) 43(11.43,1.27) 44(11.43,-1.27) 45(13.97,1.27) 46(13.97,-1.27) 47(16.51,1.27) 48(16.51,-1.27) 49(19.05,1.27) 50(19.05,-1.27) 51(21.59,1.27) 52(21.59,-1.27) 53(24.13,1.27) 54(24.13,-1.27) 55(26.67,1.27) 56(26.67,-1.27) 57(29.21,1.27) 58(29.21,-1.27) 59(31.75,1.27) 60(31.75,-1.27) 61(34.29,1.27) 62(34.29,-1.27) 63(36.83,1.27) 64(36.83,-1.27) 65(39.37,1.27) 66(39.37,-1.27) 67(41.91,1.27) 68(41.91,-1.27)
TopOverlay:
  circle w0.2: c-43.44,2.8 r0.2
  lines w0.2: -43.34,-2.7 -43.34,2.7 43.3,2.7 43.3,-2.7 -43.34,-2.7
  text "1" at -41.44,3 h1
  text "2" at -41.34,-3.7 h1
3D body "PBD-2.stp": height 8.5, standoff -3.15, extent 40.64,-2.54 43.18,2.54
3D body "PBD-2.stp": height 8.5, standoff -3.15, extent 38.1,-2.54 40.64,2.54
3D body "PBD-2.stp": height 8.5, standoff -3.15, extent -38.1,-2.54 -35.56,2.54
3D body "PBD-2.stp": height 8.5, standoff -3.15, extent -43.18,-2.54 -40.64,2.54
3D body "PBD-2.stp": height 8.5, standoff -3.15, extent -40.64,-2.54 -38.1,2.54
3D body "PBD-2.stp": height 8.5, standoff -3.15, extent -30.48,-2.54 -27.94,2.54
3D body "PBD-2.stp": height 8.5, standoff -3.15, extent -35.56,-2.54 -33.02,2.54
3D body "PBD-2.stp": height 8.5, standoff -3.15, extent -33.02,-2.54 -30.48,2.54
3D body "PBD-2.stp": height 8.5, standoff -3.15, extent -22.86,-2.54 -20.32,2.54
3D body "PBD-2.stp": height 8.5, standoff -3.15, extent -27.94,-2.54 -25.4,2.54
3D body "PBD-2.stp": height 8.5, standoff -3.15, extent -25.4,-2.54 -22.86,2.54
3D body "PBD-2.stp": height 8.5, standoff -3.15, extent -15.24,-2.54 -12.7,2.54
3D body "PBD-2.stp": height 8.5, standoff -3.15, extent -20.32,-2.54 -17.78,2.54
3D body "PBD-2.stp": height 8.5, standoff -3.15, extent -17.78,-2.54 -15.24,2.54
3D body "PBD-2.stp": height 8.5, standoff -3.15, extent -7.62,-2.54 -5.08,2.54
3D body "PBD-2.stp": height 8.5, standoff -3.15, extent -12.7,-2.54 -10.16,2.54
3D body "PBD-2.stp": height 8.5, standoff -3.15, extent -10.16,-2.54 -7.62,2.54
3D body "PBD-2.stp": height 8.5, standoff -3.15, extent 0,-2.54 2.54,2.54
3D body "PBD-2.stp": height 8.5, standoff -3.15, extent -5.08,-2.54 -2.54,2.54
3D body "PBD-2.stp": height 8.5, standoff -3.15, extent -2.54,-2.54 0,2.54
3D body "PBD-2.stp": height 8.5, standoff -3.15, extent 2.54,-2.54 5.08,2.54
3D body "PBD-2.stp": height 8.5, standoff -3.15, extent 5.08,-2.54 7.62,2.54
3D body "PBD-2.stp": height 8.5, standoff -3.15, extent 7.62,-2.54 10.16,2.54
3D body "PBD-2.stp": height 8.5, standoff -3.15, extent 10.16,-2.54 12.7,2.54
3D body "PBD-2.stp": height 8.5, standoff -3.15, extent 12.7,-2.54 15.24,2.54
3D body "PBD-2.stp": height 8.5, standoff -3.15, extent 15.24,-2.54 17.78,2.54
3D body "PBD-2.stp": height 8.5, standoff -3.15, extent 17.78,-2.54 20.32,2.54
3D body "PBD-2.stp": height 8.5, standoff -3.15, extent 25.4,-2.54 27.94,2.54
3D body "PBD-2.stp": height 8.5, standoff -3.15, extent 20.32,-2.54 22.86,2.54
3D body "PBD-2.stp": height 8.5, standoff -3.15, extent 22.86,-2.54 25.4,2.54
3D body "PBD-2.stp": height 8.5, standoff -3.15, extent 33.02,-2.54 35.56,2.54
3D body "PBD-2.stp": height 8.5, standoff -3.15, extent 27.94,-2.54 30.48,2.54
3D body "PBD-2.stp": height 8.5, standoff -3.15, extent 30.48,-2.54 33.02,2.54
3D body "PBD-2.stp": height 8.5, standoff -3.15, extent 35.56,-2.54 38.1,2.54

## HDR_F_2X35 [mm] "female Header with 2.54 mm Pitch"
pads (70):
  round 1.4 / inner round 1.4 / far side oval 1.4x2.2 hole 1: 1(-43.18,1.27) 2(-43.18,-1.27) 3(-40.64,1.27) 4(-40.64,-1.27) 5(-38.1,1.27) 6(-38.1,-1.27) 7(-35.56,1.27) 8(-35.56,-1.27) 9(-33.02,1.27) 10(-33.02,-1.27) 11(-30.48,1.27) 12(-30.48,-1.27) 13(-27.94,1.27) 14(-27.94,-1.27) 15(-25.4,1.27) 16(-25.4,-1.27) 17(-22.86,1.27) 18(-22.86,-1.27) 19(-20.32,1.27) 20(-20.32,-1.27) 21(-17.78,1.27) 22(-17.78,-1.27) 23(-15.24,1.27) 24(-15.24,-1.27) 25(-12.7,1.27) 26(-12.7,-1.27) 27(-10.16,1.27) 28(-10.16,-1.27) 29(-7.62,1.27) 30(-7.62,-1.27) 31(-5.08,1.27) 32(-5.08,-1.27) 33(-2.54,1.27) 34(-2.54,-1.27) 35(0,1.27) 36(0,-1.27) 37(2.54,1.27) 38(2.54,-1.27) 39(5.08,1.27) 40(5.08,-1.27) 41(7.62,1.27) 42(7.62,-1.27) 43(10.16,1.27) 44(10.16,-1.27) 45(12.7,1.27) 46(12.7,-1.27) 47(15.24,1.27) 48(15.24,-1.27) 49(17.78,1.27) 50(17.78,-1.27) 51(20.32,1.27) 52(20.32,-1.27) 53(22.86,1.27) 54(22.86,-1.27) 55(25.4,1.27) 56(25.4,-1.27) 57(27.94,1.27) 58(27.94,-1.27) 59(30.48,1.27) 60(30.48,-1.27) 61(33.02,1.27) 62(33.02,-1.27) 63(35.56,1.27) 64(35.56,-1.27) 65(38.1,1.27) 66(38.1,-1.27) 67(40.64,1.27) 68(40.64,-1.27) 69(43.18,1.27) 70(43.18,-1.27)
TopOverlay:
  circle w0.2: c-44.71,2.8 r0.2
  lines w0.2: -44.61,-2.7 -44.61,2.7 44.6,2.7 44.6,-2.7 -44.61,-2.7
  text "1" at -42.71,3 h1
  text "2" at -42.61,-3.7 h1
3D body "PBD-2.stp": height 8.5, standoff -3.15, extent 39.37,-2.54 41.91,2.54
3D body "PBD-2.stp": height 8.5, standoff -3.15, extent 41.91,-2.54 44.45,2.54
3D body "PBD-2.stp": height 8.5, standoff -3.15, extent 36.83,-2.54 39.37,2.54
3D body "PBD-2.stp": height 8.5, standoff -3.15, extent -39.37,-2.54 -36.83,2.54
3D body "PBD-2.stp": height 8.5, standoff -3.15, extent -44.45,-2.54 -41.91,2.54
3D body "PBD-2.stp": height 8.5, standoff -3.15, extent -41.91,-2.54 -39.37,2.54
3D body "PBD-2.stp": height 8.5, standoff -3.15, extent -31.75,-2.54 -29.21,2.54
3D body "PBD-2.stp": height 8.5, standoff -3.15, extent -36.83,-2.54 -34.29,2.54
3D body "PBD-2.stp": height 8.5, standoff -3.15, extent -34.29,-2.54 -31.75,2.54
3D body "PBD-2.stp": height 8.5, standoff -3.15, extent -24.13,-2.54 -21.59,2.54
3D body "PBD-2.stp": height 8.5, standoff -3.15, extent -29.21,-2.54 -26.67,2.54
3D body "PBD-2.stp": height 8.5, standoff -3.15, extent -26.67,-2.54 -24.13,2.54
3D body "PBD-2.stp": height 8.5, standoff -3.15, extent -16.51,-2.54 -13.97,2.54
3D body "PBD-2.stp": height 8.5, standoff -3.15, extent -21.59,-2.54 -19.05,2.54
3D body "PBD-2.stp": height 8.5, standoff -3.15, extent -19.05,-2.54 -16.51,2.54
3D body "PBD-2.stp": height 8.5, standoff -3.15, extent -8.89,-2.54 -6.35,2.54
3D body "PBD-2.stp": height 8.5, standoff -3.15, extent -13.97,-2.54 -11.43,2.54
3D body "PBD-2.stp": height 8.5, standoff -3.15, extent -11.43,-2.54 -8.89,2.54
3D body "PBD-2.stp": height 8.5, standoff -3.15, extent -1.27,-2.54 1.27,2.54
3D body "PBD-2.stp": height 8.5, standoff -3.15, extent -6.35,-2.54 -3.81,2.54
3D body "PBD-2.stp": height 8.5, standoff -3.15, extent -3.81,-2.54 -1.27,2.54
3D body "PBD-2.stp": height 8.5, standoff -3.15, extent 1.27,-2.54 3.81,2.54
3D body "PBD-2.stp": height 8.5, standoff -3.15, extent 3.81,-2.54 6.35,2.54
3D body "PBD-2.stp": height 8.5, standoff -3.15, extent 6.35,-2.54 8.89,2.54
3D body "PBD-2.stp": height 8.5, standoff -3.15, extent 8.89,-2.54 11.43,2.54
3D body "PBD-2.stp": height 8.5, standoff -3.15, extent 11.43,-2.54 13.97,2.54
3D body "PBD-2.stp": height 8.5, standoff -3.15, extent 13.97,-2.54 16.51,2.54
3D body "PBD-2.stp": height 8.5, standoff -3.15, extent 16.51,-2.54 19.05,2.54
3D body "PBD-2.stp": height 8.5, standoff -3.15, extent 24.13,-2.54 26.67,2.54
3D body "PBD-2.stp": height 8.5, standoff -3.15, extent 19.05,-2.54 21.59,2.54
3D body "PBD-2.stp": height 8.5, standoff -3.15, extent 21.59,-2.54 24.13,2.54
3D body "PBD-2.stp": height 8.5, standoff -3.15, extent 31.75,-2.54 34.29,2.54
3D body "PBD-2.stp": height 8.5, standoff -3.15, extent 26.67,-2.54 29.21,2.54
3D body "PBD-2.stp": height 8.5, standoff -3.15, extent 29.21,-2.54 31.75,2.54
3D body "PBD-2.stp": height 8.5, standoff -3.15, extent 34.29,-2.54 36.83,2.54

## HDR_F_2X36 [mm] "female Header with 2.54 mm Pitch"
pads (72):
  round 1.4 / inner round 1.4 / far side oval 1.4x2.2 hole 1: 1(-44.45,1.27) 2(-44.45,-1.27) 3(-41.91,1.27) 4(-41.91,-1.27) 5(-39.37,1.27) 6(-39.37,-1.27) 7(-36.83,1.27) 8(-36.83,-1.27) 9(-34.29,1.27) 10(-34.29,-1.27) 11(-31.75,1.27) 12(-31.75,-1.27) 13(-29.21,1.27) 14(-29.21,-1.27) 15(-26.67,1.27) 16(-26.67,-1.27) 17(-24.13,1.27) 18(-24.13,-1.27) 19(-21.59,1.27) 20(-21.59,-1.27) 21(-19.05,1.27) 22(-19.05,-1.27) 23(-16.51,1.27) 24(-16.51,-1.27) 25(-13.97,1.27) 26(-13.97,-1.27) 27(-11.43,1.27) 28(-11.43,-1.27) 29(-8.89,1.27) 30(-8.89,-1.27) 31(-6.35,1.27) 32(-6.35,-1.27) 33(-3.81,1.27) 34(-3.81,-1.27) 35(-1.27,1.27) 36(-1.27,-1.27) 37(1.27,1.27) 38(1.27,-1.27) 39(3.81,1.27) 40(3.81,-1.27) 41(6.35,1.27) 42(6.35,-1.27) 43(8.89,1.27) 44(8.89,-1.27) 45(11.43,1.27) 46(11.43,-1.27) 47(13.97,1.27) 48(13.97,-1.27) 49(16.51,1.27) 50(16.51,-1.27) 51(19.05,1.27) 52(19.05,-1.27) 53(21.59,1.27) 54(21.59,-1.27) 55(24.13,1.27) 56(24.13,-1.27) 57(26.67,1.27) 58(26.67,-1.27) 59(29.21,1.27) 60(29.21,-1.27) 61(31.75,1.27) 62(31.75,-1.27) 63(34.29,1.27) 64(34.29,-1.27) 65(36.83,1.27) 66(36.83,-1.27) 67(39.37,1.27) 68(39.37,-1.27) 69(41.91,1.27) 70(41.91,-1.27) 71(44.45,1.27) 72(44.45,-1.27)
TopOverlay:
  circle w0.2: c-45.98,2.8 r0.2
  lines w0.2: -45.88,-2.7 45.8,-2.7 45.8,2.7 -45.88,2.7 -45.88,-2.7
  text "2" at -43.88,-3.7 h1
  text "1" at -43.98,3 h1
3D body "PBD-2.stp": height 8.5, standoff -3.15, extent 33.02,-2.54 35.56,2.54
3D body "PBD-2.stp": height 8.5, standoff -3.15, extent 27.94,-2.54 30.48,2.54
3D body "PBD-2.stp": height 8.5, standoff -3.15, extent 25.4,-2.54 27.94,2.54
3D body "PBD-2.stp": height 8.5, standoff -3.15, extent 30.48,-2.54 33.02,2.54
3D body "PBD-2.stp": height 8.5, standoff -3.15, extent 20.32,-2.54 22.86,2.54
3D body "PBD-2.stp": height 8.5, standoff -3.15, extent 17.78,-2.54 20.32,2.54
3D body "PBD-2.stp": height 8.5, standoff -3.15, extent 22.86,-2.54 25.4,2.54
3D body "PBD-2.stp": height 8.5, standoff -3.15, extent 15.24,-2.54 17.78,2.54
3D body "PBD-2.stp": height 8.5, standoff -3.15, extent 12.7,-2.54 15.24,2.54
3D body "PBD-2.stp": height 8.5, standoff -3.15, extent 10.16,-2.54 12.7,2.54
3D body "PBD-2.stp": height 8.5, standoff -3.15, extent 7.62,-2.54 10.16,2.54
3D body "PBD-2.stp": height 8.5, standoff -3.15, extent 5.08,-2.54 7.62,2.54
3D body "PBD-2.stp": height 8.5, standoff -3.15, extent 2.54,-2.54 5.08,2.54
3D body "PBD-2.stp": height 8.5, standoff -3.15, extent 0,-2.54 2.54,2.54
3D body "PBD-2.stp": height 8.5, standoff -3.15, extent -5.08,-2.54 -2.54,2.54
3D body "PBD-2.stp": height 8.5, standoff -3.15, extent -7.62,-2.54 -5.08,2.54
3D body "PBD-2.stp": height 8.5, standoff -3.15, extent -2.54,-2.54 0,2.54
3D body "PBD-2.stp": height 8.5, standoff -3.15, extent -12.7,-2.54 -10.16,2.54
3D body "PBD-2.stp": height 8.5, standoff -3.15, extent -15.24,-2.54 -12.7,2.54
3D body "PBD-2.stp": height 8.5, standoff -3.15, extent -10.16,-2.54 -7.62,2.54
3D body "PBD-2.stp": height 8.5, standoff -3.15, extent -20.32,-2.54 -17.78,2.54
3D body "PBD-2.stp": height 8.5, standoff -3.15, extent -22.86,-2.54 -20.32,2.54
3D body "PBD-2.stp": height 8.5, standoff -3.15, extent -17.78,-2.54 -15.24,2.54
3D body "PBD-2.stp": height 8.5, standoff -3.15, extent -27.94,-2.54 -25.4,2.54
3D body "PBD-2.stp": height 8.5, standoff -3.15, extent -30.48,-2.54 -27.94,2.54
3D body "PBD-2.stp": height 8.5, standoff -3.15, extent -25.4,-2.54 -22.86,2.54
3D body "PBD-2.stp": height 8.5, standoff -3.15, extent -35.56,-2.54 -33.02,2.54
3D body "PBD-2.stp": height 8.5, standoff -3.15, extent -38.1,-2.54 -35.56,2.54
3D body "PBD-2.stp": height 8.5, standoff -3.15, extent -33.02,-2.54 -30.48,2.54
3D body "PBD-2.stp": height 8.5, standoff -3.15, extent -43.18,-2.54 -40.64,2.54
3D body "PBD-2.stp": height 8.5, standoff -3.15, extent -45.72,-2.54 -43.18,2.54
3D body "PBD-2.stp": height 8.5, standoff -3.15, extent -40.64,-2.54 -38.1,2.54
3D body "PBD-2.stp": height 8.5, standoff -3.15, extent 35.56,-2.54 38.1,2.54
3D body "PBD-2.stp": height 8.5, standoff -3.15, extent 40.64,-2.54 43.18,2.54
3D body "PBD-2.stp": height 8.5, standoff -3.15, extent 38.1,-2.54 40.64,2.54
3D body "PBD-2.stp": height 8.5, standoff -3.15, extent 43.18,-2.54 45.72,2.54

## HDR_F_2X37 [mm] "female Header with 2.54 mm Pitch"
pads (74):
  round 1.4 / inner round 1.4 / far side oval 1.4x2.2 hole 1: 1(-45.72,1.27) 2(-45.72,-1.27) 3(-43.18,1.27) 4(-43.18,-1.27) 5(-40.64,1.27) 6(-40.64,-1.27) 7(-38.1,1.27) 8(-38.1,-1.27) 9(-35.56,1.27) 10(-35.56,-1.27) 11(-33.02,1.27) 12(-33.02,-1.27) 13(-30.48,1.27) 14(-30.48,-1.27) 15(-27.94,1.27) 16(-27.94,-1.27) 17(-25.4,1.27) 18(-25.4,-1.27) 19(-22.86,1.27) 20(-22.86,-1.27) 21(-20.32,1.27) 22(-20.32,-1.27) 23(-17.78,1.27) 24(-17.78,-1.27) 25(-15.24,1.27) 26(-15.24,-1.27) 27(-12.7,1.27) 28(-12.7,-1.27) 29(-10.16,1.27) 30(-10.16,-1.27) 31(-7.62,1.27) 32(-7.62,-1.27) 33(-5.08,1.27) 34(-5.08,-1.27) 35(-2.54,1.27) 36(-2.54,-1.27) 37(0,1.27) 38(0,-1.27) 39(2.54,1.27) 40(2.54,-1.27) 41(5.08,1.27) 42(5.08,-1.27) 43(7.62,1.27) 44(7.62,-1.27) 45(10.16,1.27) 46(10.16,-1.27) 47(12.7,1.27) 48(12.7,-1.27) 49(15.24,1.27) 50(15.24,-1.27) 51(17.78,1.27) 52(17.78,-1.27) 53(20.32,1.27) 54(20.32,-1.27) 55(22.86,1.27) 56(22.86,-1.27) 57(25.4,1.27) 58(25.4,-1.27) 59(27.94,1.27) 60(27.94,-1.27) 61(30.48,1.27) 62(30.48,-1.27) 63(33.02,1.27) 64(33.02,-1.27) 65(35.56,1.27) 66(35.56,-1.27) 67(38.1,1.27) 68(38.1,-1.27) 69(40.64,1.27) 70(40.64,-1.27) 71(43.18,1.27) 72(43.18,-1.27) 73(45.72,1.27) 74(45.72,-1.27)
TopOverlay:
  circle w0.2: c-47.25,2.8 r0.2
  lines w0.2: -47.15,-2.7 -47.15,2.7 47.1,2.7 47.1,-2.7 -47.15,-2.7
  text "1" at -45.25,3 h1
  text "2" at -45.15,-3.7 h1
3D body "PBD-2.stp": height 8.5, standoff -3.15, extent 44.45,-2.54 46.99,2.54
3D body "PBD-2.stp": height 8.5, standoff -3.15, extent 41.91,-2.54 44.45,2.54
3D body "PBD-2.stp": height 8.5, standoff -3.15, extent 36.83,-2.54 39.37,2.54
3D body "PBD-2.stp": height 8.5, standoff -3.15, extent 39.37,-2.54 41.91,2.54
3D body "PBD-2.stp": height 8.5, standoff -3.15, extent 34.29,-2.54 36.83,2.54
3D body "PBD-2.stp": height 8.5, standoff -3.15, extent -41.91,-2.54 -39.37,2.54
3D body "PBD-2.stp": height 8.5, standoff -3.15, extent -46.99,-2.54 -44.45,2.54
3D body "PBD-2.stp": height 8.5, standoff -3.15, extent -44.45,-2.54 -41.91,2.54
3D body "PBD-2.stp": height 8.5, standoff -3.15, extent -34.29,-2.54 -31.75,2.54
3D body "PBD-2.stp": height 8.5, standoff -3.15, extent -39.37,-2.54 -36.83,2.54
3D body "PBD-2.stp": height 8.5, standoff -3.15, extent -36.83,-2.54 -34.29,2.54
3D body "PBD-2.stp": height 8.5, standoff -3.15, extent -26.67,-2.54 -24.13,2.54
3D body "PBD-2.stp": height 8.5, standoff -3.15, extent -31.75,-2.54 -29.21,2.54
3D body "PBD-2.stp": height 8.5, standoff -3.15, extent -29.21,-2.54 -26.67,2.54
3D body "PBD-2.stp": height 8.5, standoff -3.15, extent -19.05,-2.54 -16.51,2.54
3D body "PBD-2.stp": height 8.5, standoff -3.15, extent -24.13,-2.54 -21.59,2.54
3D body "PBD-2.stp": height 8.5, standoff -3.15, extent -21.59,-2.54 -19.05,2.54
3D body "PBD-2.stp": height 8.5, standoff -3.15, extent -11.43,-2.54 -8.89,2.54
3D body "PBD-2.stp": height 8.5, standoff -3.15, extent -16.51,-2.54 -13.97,2.54
3D body "PBD-2.stp": height 8.5, standoff -3.15, extent -13.97,-2.54 -11.43,2.54
3D body "PBD-2.stp": height 8.5, standoff -3.15, extent -3.81,-2.54 -1.27,2.54
3D body "PBD-2.stp": height 8.5, standoff -3.15, extent -8.89,-2.54 -6.35,2.54
3D body "PBD-2.stp": height 8.5, standoff -3.15, extent -6.35,-2.54 -3.81,2.54
3D body "PBD-2.stp": height 8.5, standoff -3.15, extent -1.27,-2.54 1.27,2.54
3D body "PBD-2.stp": height 8.5, standoff -3.15, extent 1.27,-2.54 3.81,2.54
3D body "PBD-2.stp": height 8.5, standoff -3.15, extent 3.81,-2.54 6.35,2.54
3D body "PBD-2.stp": height 8.5, standoff -3.15, extent 6.35,-2.54 8.89,2.54
3D body "PBD-2.stp": height 8.5, standoff -3.15, extent 8.89,-2.54 11.43,2.54
3D body "PBD-2.stp": height 8.5, standoff -3.15, extent 11.43,-2.54 13.97,2.54
3D body "PBD-2.stp": height 8.5, standoff -3.15, extent 13.97,-2.54 16.51,2.54
3D body "PBD-2.stp": height 8.5, standoff -3.15, extent 21.59,-2.54 24.13,2.54
3D body "PBD-2.stp": height 8.5, standoff -3.15, extent 16.51,-2.54 19.05,2.54
3D body "PBD-2.stp": height 8.5, standoff -3.15, extent 19.05,-2.54 21.59,2.54
3D body "PBD-2.stp": height 8.5, standoff -3.15, extent 29.21,-2.54 31.75,2.54
3D body "PBD-2.stp": height 8.5, standoff -3.15, extent 24.13,-2.54 26.67,2.54
3D body "PBD-2.stp": height 8.5, standoff -3.15, extent 26.67,-2.54 29.21,2.54
3D body "PBD-2.stp": height 8.5, standoff -3.15, extent 31.75,-2.54 34.29,2.54